# EAGLE library part FT232RL (library Eagle CMR)
USB to serial UART interface Chip
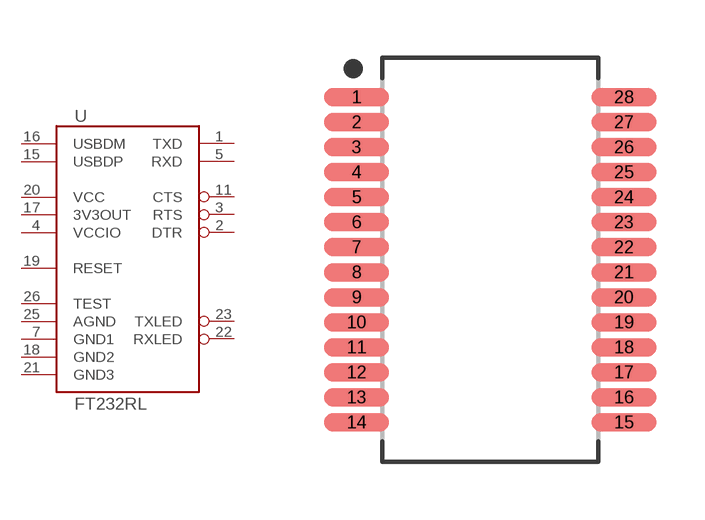
[diagram p24: symbol with the pads of SOP65P777X200-28N; footprint SOP65P777X200-28N]

Designator prefix U

## FT232RL (DIGI-KEY: 768-1007-1-ND; DIGI-KEY_LINK: https://www.digikey.com/en/products/detail/ftdi-future-technology-devices-international-ltd/FT232RL-REEL/1836385; LCSC#: C490691; LCSC_LINK: https://lcsc.com/product-detail/USB-ICs_FTDI-FT232RL_C490691.html; MANUFACTURER: FTDI; MFR#: FT232RL; PACKAGE: SSOP-28)  [SOP65P777X200-28N]
1  TXD  out
2  DTR
3  RTS
4  VCCIO  pwr
5  RXD  in
7  GND1  pwr
11  CTS
15  USBDP
16  USBDM
17  3V3OUT  out
18  GND2  pwr
19  RESET  pwr
20  VCC  pwr
21  GND3  pwr
22  RXLED
23  TXLED
25  AGND  pwr
26  TEST  in

## Footprint SOP65P777X200-28N (pad centres in mm)
28-SOP, 0.65 mm pitch, 7.78 mm span, 10.28 X 5.30 X 2.00 mm body 28-pin SOP package with 0.65 mm pitch, 7.78 mm span with body size 10.28 X 5.30 X 2.00 mm
smd 1.684 x 0.475: 1 -3.47,4.225; 2 -3.47,3.575; 3 -3.47,2.925; 4 -3.47,2.275; 5 -3.47,1.625; 6 -3.47,0.975; 7 -3.47,0.325; 8 -3.47,-0.325; 9 -3.47,-0.975; 10 -3.47,-1.625; 11 -3.47,-2.275; 12 -3.47,-2.925; 13 -3.47,-3.575; 14 -3.47,-4.225; 15 3.47,-4.225; 16 3.47,-3.575; 17 3.47,-2.925; 18 3.47,-2.275; 19 3.47,-1.625; 20 3.47,-0.975; 21 3.47,-0.325; 22 3.47,0.325; 23 3.47,0.975; 24 3.47,1.625; 25 3.47,2.275; 26 3.47,2.925; 27 3.47,3.575; 28 3.47,4.225